# Altium schematic symbol library MCP1700.SchLib: 1 symbol
Pins are listed as number, name and electrical type; pins without a type are passive.

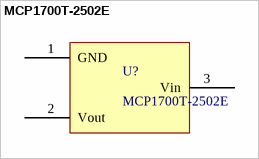
[diagram p0: symbol MCP1700T-2502E]

## MCP1700T-2502E
designator U?
footprint MCP1700 (SOT23, MCP1700)
pins: 1 GND (power), 2 Vout (power), 3 Vin (power)